# Altium schematic symbol library SparkFun-Connectors.SCHLIB: 441 symbols (part 4 of 12)
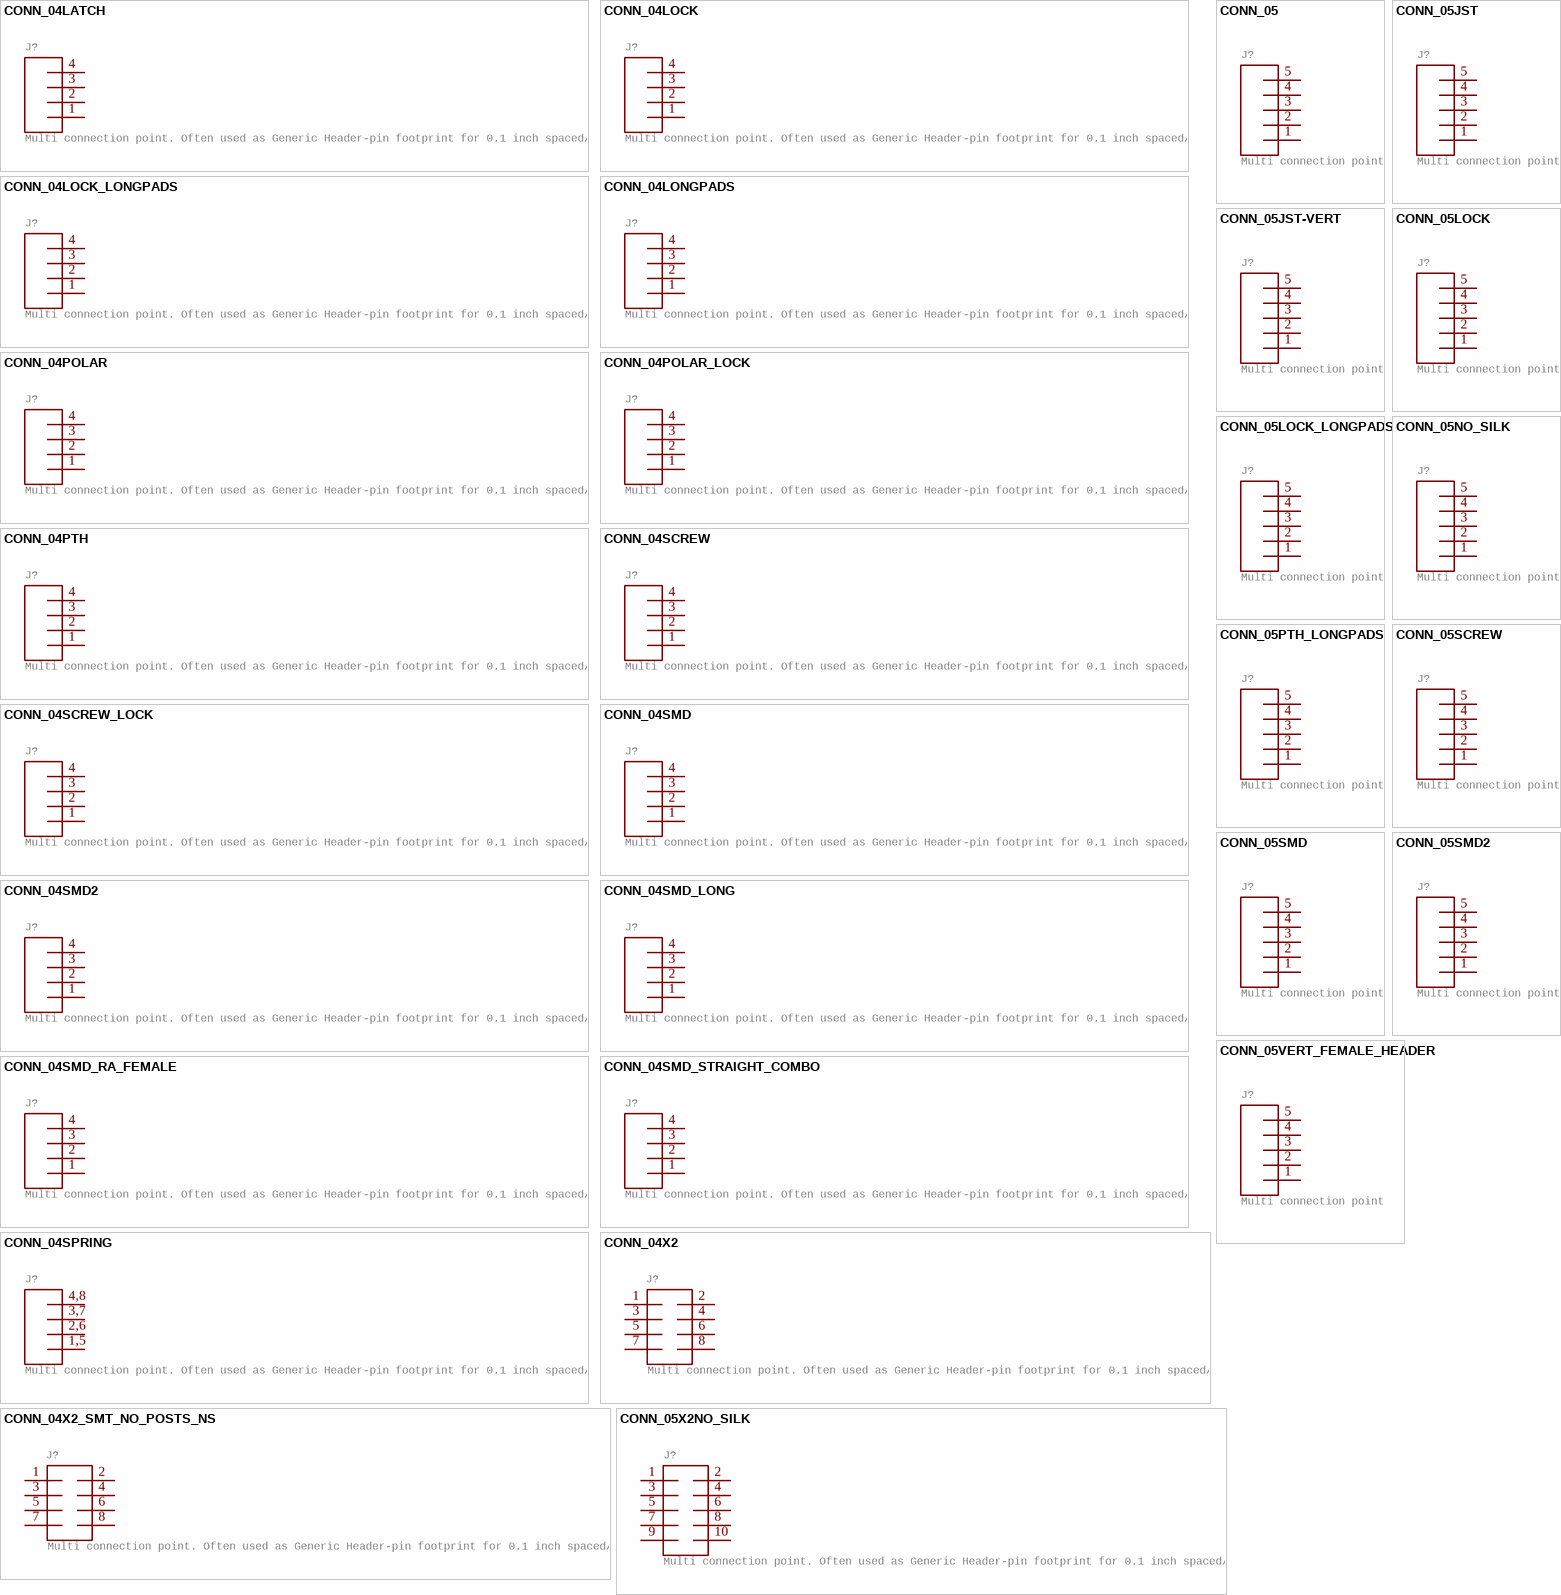
[diagram p23: symbols CONN_04LATCH to CONN_05X2NO_SILK]

## CONN_05LOCK
designator J?, comment Multi connection point. Often used as Generic Header-pin footprint for 0.1 inch spaced/style header connections    On any of the 0.1 inch spaced packages, you can populate with these:  Break Away Headers - Straight (PRT-00116)   Break Away Male Headers - Right Angle (PRT-00553)   Female Headers (PRT-00115)   Break Away Headers - Machine Pin (PRT-00117)   Break Away Female Headers - Swiss Machine Pin (PRT-00743)        For SCREWTERMINALS and SPRING TERMINALS visit here:  Screw Terimnals on SparkFun.com (5mm/3.5mm/2.54mm spacing)       This device is also useful as a general connection point to wire up your design to another part of your project. Our various solder wires solder well into these plated through hole pads.  Hook-Up Wire - Assortment (Stranded, 22 AWG) (PRT-11375)   Hook-Up Wire - Assortment (Solid Core, 22 AWG) (PRT-11367)   View the entire wire category on our website here          Special notes:     Molex polarized connector foot print use with SKU : PRT-08231 with associated crimp pins and housings. 1MM SMD Version SKU: PRT-10208
GateName_1: G$1; SymbolName_1: CONN_05; DeviceName: LOCK; LibraryName: SparkFun-Connectors; DeviceSetName: CONN_05; Package: 1X05_LOCK
footprint 1X05_LOCK
pins: 1, 2, 3, 4, 5

## CONN_05LOCK_LONGPADS
designator J?, comment Multi connection point. Often used as Generic Header-pin footprint for 0.1 inch spaced/style header connections    On any of the 0.1 inch spaced packages, you can populate with these:  Break Away Headers - Straight (PRT-00116)   Break Away Male Headers - Right Angle (PRT-00553)   Female Headers (PRT-00115)   Break Away Headers - Machine Pin (PRT-00117)   Break Away Female Headers - Swiss Machine Pin (PRT-00743)        For SCREWTERMINALS and SPRING TERMINALS visit here:  Screw Terimnals on SparkFun.com (5mm/3.5mm/2.54mm spacing)       This device is also useful as a general connection point to wire up your design to another part of your project. Our various solder wires solder well into these plated through hole pads.  Hook-Up Wire - Assortment (Stranded, 22 AWG) (PRT-11375)   Hook-Up Wire - Assortment (Solid Core, 22 AWG) (PRT-11367)   View the entire wire category on our website here          Special notes:     Molex polarized connector foot print use with SKU : PRT-08231 with associated crimp pins and housings. 1MM SMD Version SKU: PRT-10208
GateName_1: G$1; SymbolName_1: CONN_05; DeviceName: LOCK_LONGPADS; LibraryName: SparkFun-Connectors; DeviceSetName: CONN_05; Package: 1X05_LOCK_LONGPADS
footprint 1X05_LOCK_LONGPADS
pins: 1, 2, 3, 4, 5

## CONN_05NO_SILK
designator J?, comment Multi connection point. Often used as Generic Header-pin footprint for 0.1 inch spaced/style header connections    On any of the 0.1 inch spaced packages, you can populate with these:  Break Away Headers - Straight (PRT-00116)   Break Away Male Headers - Right Angle (PRT-00553)   Female Headers (PRT-00115)   Break Away Headers - Machine Pin (PRT-00117)   Break Away Female Headers - Swiss Machine Pin (PRT-00743)        For SCREWTERMINALS and SPRING TERMINALS visit here:  Screw Terimnals on SparkFun.com (5mm/3.5mm/2.54mm spacing)       This device is also useful as a general connection point to wire up your design to another part of your project. Our various solder wires solder well into these plated through hole pads.  Hook-Up Wire - Assortment (Stranded, 22 AWG) (PRT-11375)   Hook-Up Wire - Assortment (Solid Core, 22 AWG) (PRT-11367)   View the entire wire category on our website here          Special notes:     Molex polarized connector foot print use with SKU : PRT-08231 with associated crimp pins and housings. 1MM SMD Version SKU: PRT-10208
GateName_1: G$1; SymbolName_1: CONN_05; DeviceName: NO_SILK; LibraryName: SparkFun-Connectors; DeviceSetName: CONN_05; Package: 1X05_NO_SILK
footprint 1X05_NO_SILK
pins: 1, 2, 3, 4, 5

## CONN_05PTH_LONGPADS
designator J?, comment Multi connection point. Often used as Generic Header-pin footprint for 0.1 inch spaced/style header connections    On any of the 0.1 inch spaced packages, you can populate with these:  Break Away Headers - Straight (PRT-00116)   Break Away Male Headers - Right Angle (PRT-00553)   Female Headers (PRT-00115)   Break Away Headers - Machine Pin (PRT-00117)   Break Away Female Headers - Swiss Machine Pin (PRT-00743)        For SCREWTERMINALS and SPRING TERMINALS visit here:  Screw Terimnals on SparkFun.com (5mm/3.5mm/2.54mm spacing)       This device is also useful as a general connection point to wire up your design to another part of your project. Our various solder wires solder well into these plated through hole pads.  Hook-Up Wire - Assortment (Stranded, 22 AWG) (PRT-11375)   Hook-Up Wire - Assortment (Solid Core, 22 AWG) (PRT-11367)   View the entire wire category on our website here          Special notes:     Molex polarized connector foot print use with SKU : PRT-08231 with associated crimp pins and housings. 1MM SMD Version SKU: PRT-10208
GateName_1: G$1; SymbolName_1: CONN_05; DeviceName: PTH_LONGPADS; LibraryName: SparkFun-Connectors; DeviceSetName: CONN_05; Package: 1X05_LONGPADS
footprint 1X05_LONGPADS
pins: 1, 2, 3, 4, 5

## CONN_05SCREW
designator J?, comment Multi connection point. Often used as Generic Header-pin footprint for 0.1 inch spaced/style header connections    On any of the 0.1 inch spaced packages, you can populate with these:  Break Away Headers - Straight (PRT-00116)   Break Away Male Headers - Right Angle (PRT-00553)   Female Headers (PRT-00115)   Break Away Headers - Machine Pin (PRT-00117)   Break Away Female Headers - Swiss Machine Pin (PRT-00743)        For SCREWTERMINALS and SPRING TERMINALS visit here:  Screw Terimnals on SparkFun.com (5mm/3.5mm/2.54mm spacing)       This device is also useful as a general connection point to wire up your design to another part of your project. Our various solder wires solder well into these plated through hole pads.  Hook-Up Wire - Assortment (Stranded, 22 AWG) (PRT-11375)   Hook-Up Wire - Assortment (Solid Core, 22 AWG) (PRT-11367)   View the entire wire category on our website here          Special notes:     Molex polarized connector foot print use with SKU : PRT-08231 with associated crimp pins and housings. 1MM SMD Version SKU: PRT-10208
GateName_1: G$1; SymbolName_1: CONN_05; PROD_ID: Combine 8288+8399; DeviceName: SCREW; LibraryName: SparkFun-Connectors; DeviceSetName: CONN_05; Package: SCREWTERMINAL-3.5MM-5
footprint SCREWTERMINAL-3.5MM-5
pins: 1, 2, 3, 4, 5

## CONN_05SMD
designator J?, comment Multi connection point. Often used as Generic Header-pin footprint for 0.1 inch spaced/style header connections    On any of the 0.1 inch spaced packages, you can populate with these:  Break Away Headers - Straight (PRT-00116)   Break Away Male Headers - Right Angle (PRT-00553)   Female Headers (PRT-00115)   Break Away Headers - Machine Pin (PRT-00117)   Break Away Female Headers - Swiss Machine Pin (PRT-00743)        For SCREWTERMINALS and SPRING TERMINALS visit here:  Screw Terimnals on SparkFun.com (5mm/3.5mm/2.54mm spacing)       This device is also useful as a general connection point to wire up your design to another part of your project. Our various solder wires solder well into these plated through hole pads.  Hook-Up Wire - Assortment (Stranded, 22 AWG) (PRT-11375)   Hook-Up Wire - Assortment (Solid Core, 22 AWG) (PRT-11367)   View the entire wire category on our website here          Special notes:     Molex polarized connector foot print use with SKU : PRT-08231 with associated crimp pins and housings. 1MM SMD Version SKU: PRT-10208
GateName_1: G$1; SymbolName_1: CONN_05; PROD_ID: CONN-08528; SF_ID: GPS-08288; DeviceName: SMD; LibraryName: SparkFun-Connectors; DeviceSetName: CONN_05; Package: 1X05_1MM
footprint 1X05_1MM
pins: 1, 2, 3, 4, 5

## CONN_05SMD2
designator J?, comment Multi connection point. Often used as Generic Header-pin footprint for 0.1 inch spaced/style header connections    On any of the 0.1 inch spaced packages, you can populate with these:  Break Away Headers - Straight (PRT-00116)   Break Away Male Headers - Right Angle (PRT-00553)   Female Headers (PRT-00115)   Break Away Headers - Machine Pin (PRT-00117)   Break Away Female Headers - Swiss Machine Pin (PRT-00743)        For SCREWTERMINALS and SPRING TERMINALS visit here:  Screw Terimnals on SparkFun.com (5mm/3.5mm/2.54mm spacing)       This device is also useful as a general connection point to wire up your design to another part of your project. Our various solder wires solder well into these plated through hole pads.  Hook-Up Wire - Assortment (Stranded, 22 AWG) (PRT-11375)   Hook-Up Wire - Assortment (Solid Core, 22 AWG) (PRT-11367)   View the entire wire category on our website here          Special notes:     Molex polarized connector foot print use with SKU : PRT-08231 with associated crimp pins and housings. 1MM SMD Version SKU: PRT-10208
GateName_1: G$1; SymbolName_1: CONN_05; DeviceName: SMD2; LibraryName: SparkFun-Connectors; DeviceSetName: CONN_05; Package: 1X05_1MM_RA
footprint 1X05_1MM_RA
pins: 1, 2, 3, 4, 5

## CONN_05VERT_FEMALE_HEADER
designator J?, comment Multi connection point. Often used as Generic Header-pin footprint for 0.1 inch spaced/style header connections    On any of the 0.1 inch spaced packages, you can populate with these:  Break Away Headers - Straight (PRT-00116)   Break Away Male Headers - Right Angle (PRT-00553)   Female Headers (PRT-00115)   Break Away Headers - Machine Pin (PRT-00117)   Break Away Female Headers - Swiss Machine Pin (PRT-00743)        For SCREWTERMINALS and SPRING TERMINALS visit here:  Screw Terimnals on SparkFun.com (5mm/3.5mm/2.54mm spacing)       This device is also useful as a general connection point to wire up your design to another part of your project. Our various solder wires solder well into these plated through hole pads.  Hook-Up Wire - Assortment (Stranded, 22 AWG) (PRT-11375)   Hook-Up Wire - Assortment (Solid Core, 22 AWG) (PRT-11367)   View the entire wire category on our website here          Special notes:     Molex polarized connector foot print use with SKU : PRT-08231 with associated crimp pins and housings. 1MM SMD Version SKU: PRT-10208
GateName_1: G$1; SymbolName_1: CONN_05; DeviceName: VERT_FEMALE_HEADER; PROD_ID: CONN-15262; LibraryName: SparkFun-Connectors; DeviceSetName: CONN_05; Package: 1X05_SMD_VERTICAL_COMBO
footprint 1X05_SMD_VERTICAL_COMBO
pins: 1, 2, 3, 4, 5

## CONN_05X2NO_SILK
designator J?, comment Multi connection point. Often used as Generic Header-pin footprint for 0.1 inch spaced/style header connections     For AVR SPI programming port, see special device with nice symbol: "AVR_SPI_PROG_5x2.dev"    You can populate with any combo of single row headers, but if you'd like an exact match, check these:  2x5 AVR ICSP Male Header (PRT-00778)   2x5 Pin Shrouded Header (PRT-08506)       On any of the 0.1 inch spaced packages, you can populate with these:  Break Away Headers - Straight (PRT-00116)   Break Away Male Headers - Right Angle (PRT-00553)   Female Headers (PRT-00115)   Break Away Headers - Machine Pin (PRT-00117)   Break Away Female Headers - Swiss Machine Pin (PRT-00743)       Special note: the shrouded connector mates well with our 5x2 ribbon cables:  2x5 Pin IDC Ribbon Cable (PRT-08535)
GateName_1: G$1; SymbolName_1: CONN_05X2; DeviceName: NO_SILK; LibraryName: SparkFun-Connectors; DeviceSetName: CONN_05X2; Package: 2X5_NOSILK
footprint 2X5_NOSILK
pins: 1, 2, 3, 4, 5, 6, 7, 8, 9, 10

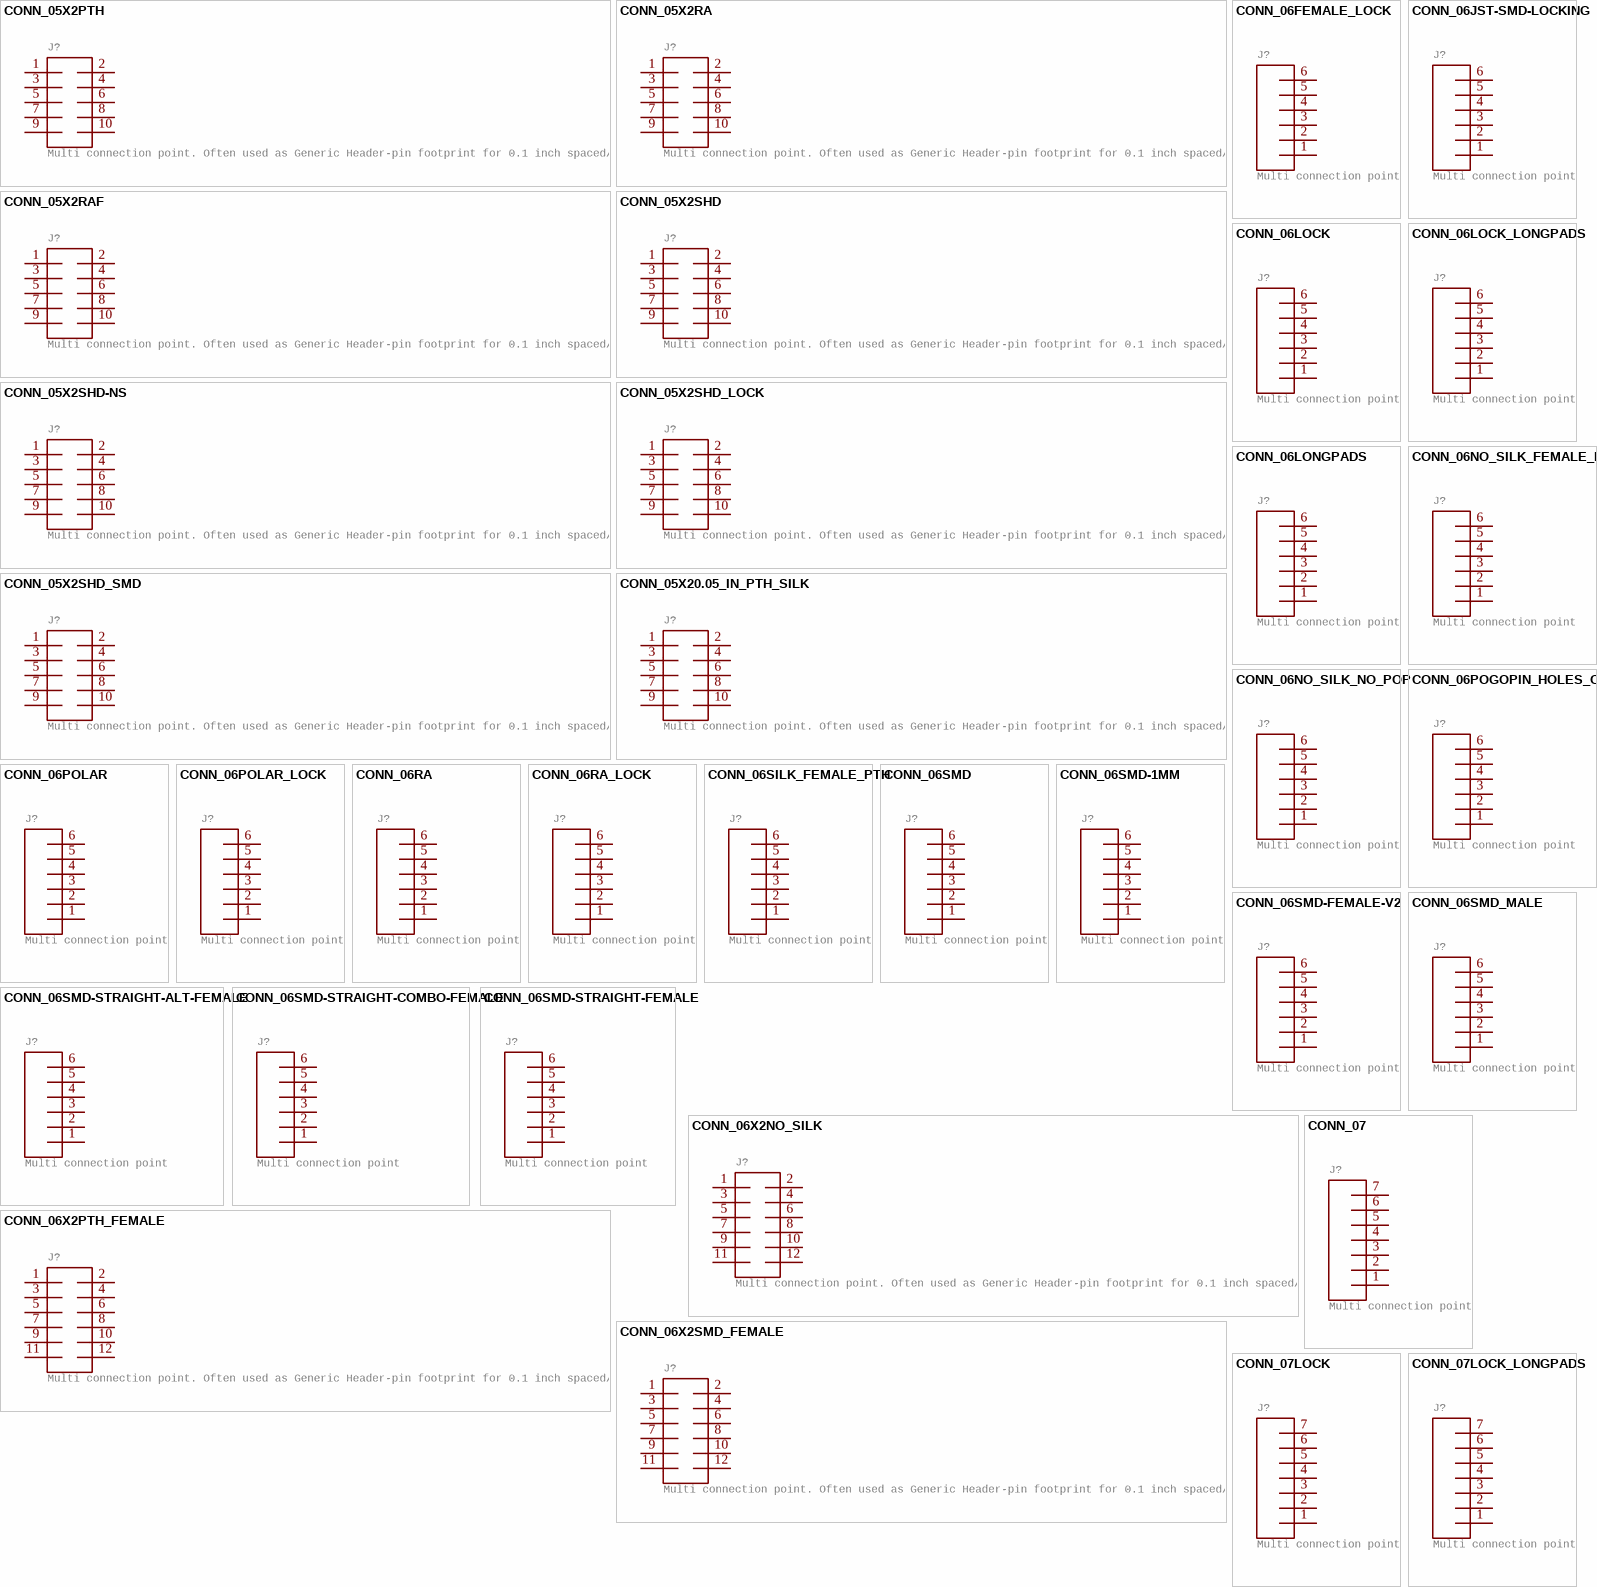
[diagram p6: symbols CONN_05X2PTH to CONN_07LOCK_LONGPADS]

## CONN_05X2PTH
designator J?, comment Multi connection point. Often used as Generic Header-pin footprint for 0.1 inch spaced/style header connections     For AVR SPI programming port, see special device with nice symbol: "AVR_SPI_PROG_5x2.dev"    You can populate with any combo of single row headers, but if you'd like an exact match, check these:  2x5 AVR ICSP Male Header (PRT-00778)   2x5 Pin Shrouded Header (PRT-08506)       On any of the 0.1 inch spaced packages, you can populate with these:  Break Away Headers - Straight (PRT-00116)   Break Away Male Headers - Right Angle (PRT-00553)   Female Headers (PRT-00115)   Break Away Headers - Machine Pin (PRT-00117)   Break Away Female Headers - Swiss Machine Pin (PRT-00743)       Special note: the shrouded connector mates well with our 5x2 ribbon cables:  2x5 Pin IDC Ribbon Cable (PRT-08535)
GateName_1: G$1; SymbolName_1: CONN_05X2; DeviceName: PTH; PROD_ID: CONN-08499; LibraryName: SparkFun-Connectors; DeviceSetName: CONN_05X2; Package: 2X5; SF_ID: PRT-0778
footprint 2X5
pins: 1, 2, 3, 4, 5, 6, 7, 8, 9, 10

## CONN_05X2RA
designator J?, comment Multi connection point. Often used as Generic Header-pin footprint for 0.1 inch spaced/style header connections     For AVR SPI programming port, see special device with nice symbol: "AVR_SPI_PROG_5x2.dev"    You can populate with any combo of single row headers, but if you'd like an exact match, check these:  2x5 AVR ICSP Male Header (PRT-00778)   2x5 Pin Shrouded Header (PRT-08506)       On any of the 0.1 inch spaced packages, you can populate with these:  Break Away Headers - Straight (PRT-00116)   Break Away Male Headers - Right Angle (PRT-00553)   Female Headers (PRT-00115)   Break Away Headers - Machine Pin (PRT-00117)   Break Away Female Headers - Swiss Machine Pin (PRT-00743)       Special note: the shrouded connector mates well with our 5x2 ribbon cables:  2x5 Pin IDC Ribbon Cable (PRT-08535)
GateName_1: G$1; SymbolName_1: CONN_05X2; DeviceName: RA; LibraryName: SparkFun-Connectors; DeviceSetName: CONN_05X2; Package: 2X5-RA
footprint 2X5-RA
pins: 1, 2, 3, 4, 5, 6, 7, 8, 9, 10

## CONN_05X2RAF
designator J?, comment Multi connection point. Often used as Generic Header-pin footprint for 0.1 inch spaced/style header connections     For AVR SPI programming port, see special device with nice symbol: "AVR_SPI_PROG_5x2.dev"    You can populate with any combo of single row headers, but if you'd like an exact match, check these:  2x5 AVR ICSP Male Header (PRT-00778)   2x5 Pin Shrouded Header (PRT-08506)       On any of the 0.1 inch spaced packages, you can populate with these:  Break Away Headers - Straight (PRT-00116)   Break Away Male Headers - Right Angle (PRT-00553)   Female Headers (PRT-00115)   Break Away Headers - Machine Pin (PRT-00117)   Break Away Female Headers - Swiss Machine Pin (PRT-00743)       Special note: the shrouded connector mates well with our 5x2 ribbon cables:  2x5 Pin IDC Ribbon Cable (PRT-08535)
GateName_1: G$1; SymbolName_1: CONN_05X2; DeviceName: RAF; LibraryName: SparkFun-Connectors; DeviceSetName: CONN_05X2; Package: 2X5-RAF
footprint 2X5-RAF
pins: 1, 2, 3, 4, 5, 6, 7, 8, 9, 10

## CONN_05X2SHD
designator J?, comment Multi connection point. Often used as Generic Header-pin footprint for 0.1 inch spaced/style header connections     For AVR SPI programming port, see special device with nice symbol: "AVR_SPI_PROG_5x2.dev"    You can populate with any combo of single row headers, but if you'd like an exact match, check these:  2x5 AVR ICSP Male Header (PRT-00778)   2x5 Pin Shrouded Header (PRT-08506)       On any of the 0.1 inch spaced packages, you can populate with these:  Break Away Headers - Straight (PRT-00116)   Break Away Male Headers - Right Angle (PRT-00553)   Female Headers (PRT-00115)   Break Away Headers - Machine Pin (PRT-00117)   Break Away Female Headers - Swiss Machine Pin (PRT-00743)       Special note: the shrouded connector mates well with our 5x2 ribbon cables:  2x5 Pin IDC Ribbon Cable (PRT-08535)
GateName_1: G$1; SymbolName_1: CONN_05X2; DeviceName: SHD; PROD_ID: CONN-08671; LibraryName: SparkFun-Connectors; DeviceSetName: CONN_05X2; Package: 2X5-SHROUDED; SF_ID: PRT-08506
footprint 2X5-SHROUDED
pins: 1, 2, 3, 4, 5, 6, 7, 8, 9, 10

## CONN_05X2SHD-NS
designator J?, comment Multi connection point. Often used as Generic Header-pin footprint for 0.1 inch spaced/style header connections     For AVR SPI programming port, see special device with nice symbol: "AVR_SPI_PROG_5x2.dev"    You can populate with any combo of single row headers, but if you'd like an exact match, check these:  2x5 AVR ICSP Male Header (PRT-00778)   2x5 Pin Shrouded Header (PRT-08506)       On any of the 0.1 inch spaced packages, you can populate with these:  Break Away Headers - Straight (PRT-00116)   Break Away Male Headers - Right Angle (PRT-00553)   Female Headers (PRT-00115)   Break Away Headers - Machine Pin (PRT-00117)   Break Away Female Headers - Swiss Machine Pin (PRT-00743)       Special note: the shrouded connector mates well with our 5x2 ribbon cables:  2x5 Pin IDC Ribbon Cable (PRT-08535)
GateName_1: G$1; SymbolName_1: CONN_05X2; DeviceName: SHD-NS; PROD_ID: CONN-08671; LibraryName: SparkFun-Connectors; DeviceSetName: CONN_05X2; Package: 2X5-SHROUDED-NS; SF_ID: PRT-08506
footprint 2X5-SHROUDED-NS
pins: 1, 2, 3, 4, 5, 6, 7, 8, 9, 10

## CONN_05X2SHD_LOCK
designator J?, comment Multi connection point. Often used as Generic Header-pin footprint for 0.1 inch spaced/style header connections     For AVR SPI programming port, see special device with nice symbol: "AVR_SPI_PROG_5x2.dev"    You can populate with any combo of single row headers, but if you'd like an exact match, check these:  2x5 AVR ICSP Male Header (PRT-00778)   2x5 Pin Shrouded Header (PRT-08506)       On any of the 0.1 inch spaced packages, you can populate with these:  Break Away Headers - Straight (PRT-00116)   Break Away Male Headers - Right Angle (PRT-00553)   Female Headers (PRT-00115)   Break Away Headers - Machine Pin (PRT-00117)   Break Away Female Headers - Swiss Machine Pin (PRT-00743)       Special note: the shrouded connector mates well with our 5x2 ribbon cables:  2x5 Pin IDC Ribbon Cable (PRT-08535)
GateName_1: G$1; SymbolName_1: CONN_05X2; DeviceName: SHD_LOCK; PROD_ID: CONN-08671; LibraryName: SparkFun-Connectors; DeviceSetName: CONN_05X2; Package: 2X5-SHROUDED_LOCK; SF_ID: PRT-08506
footprint 2X5-SHROUDED_LOCK
pins: 1, 2, 3, 4, 5, 6, 7, 8, 9, 10

## CONN_05X2SHD_SMD
designator J?, comment Multi connection point. Often used as Generic Header-pin footprint for 0.1 inch spaced/style header connections     For AVR SPI programming port, see special device with nice symbol: "AVR_SPI_PROG_5x2.dev"    You can populate with any combo of single row headers, but if you'd like an exact match, check these:  2x5 AVR ICSP Male Header (PRT-00778)   2x5 Pin Shrouded Header (PRT-08506)       On any of the 0.1 inch spaced packages, you can populate with these:  Break Away Headers - Straight (PRT-00116)   Break Away Male Headers - Right Angle (PRT-00553)   Female Headers (PRT-00115)   Break Away Headers - Machine Pin (PRT-00117)   Break Away Female Headers - Swiss Machine Pin (PRT-00743)       Special note: the shrouded connector mates well with our 5x2 ribbon cables:  2x5 Pin IDC Ribbon Cable (PRT-08535)
GateName_1: G$1; SymbolName_1: CONN_05X2; DeviceName: SHD_SMD; PROD_ID: CONN-09508; LibraryName: SparkFun-Connectors; DeviceSetName: CONN_05X2; Package: 2X5-SHROUDED_SMD
footprint 2X5-SHROUDED_SMD
pins: 1, 2, 3, 4, 5, 6, 7, 8, 9, 10

## CONN_05X20.05_IN_PTH_SILK
designator J?, comment Multi connection point. Often used as Generic Header-pin footprint for 0.1 inch spaced/style header connections     For AVR SPI programming port, see special device with nice symbol: "AVR_SPI_PROG_5x2.dev"    You can populate with any combo of single row headers, but if you'd like an exact match, check these:  2x5 AVR ICSP Male Header (PRT-00778)   2x5 Pin Shrouded Header (PRT-08506)       On any of the 0.1 inch spaced packages, you can populate with these:  Break Away Headers - Straight (PRT-00116)   Break Away Male Headers - Right Angle (PRT-00553)   Female Headers (PRT-00115)   Break Away Headers - Machine Pin (PRT-00117)   Break Away Female Headers - Swiss Machine Pin (PRT-00743)       Special note: the shrouded connector mates well with our 5x2 ribbon cables:  2x5 Pin IDC Ribbon Cable (PRT-08535)
GateName_1: G$1; SymbolName_1: CONN_05X2; DeviceName: 0.05_IN_PTH_SILK; LibraryName: SparkFun-Connectors; DeviceSetName: CONN_05X2; Package: 2X5_PTH_SILK_.05
footprint 2X5_PTH_SILK_.05
pins: 1, 2, 3, 4, 5, 6, 7, 8, 9, 10

## CONN_06FEMALE_LOCK
designator J?, comment Multi connection point. Often used as Generic Header-pin footprint for 0.1 inch spaced/style header connections    On any of the 0.1 inch spaced packages, you can populate with these:  Break Away Headers - Straight (PRT-00116)   Break Away Male Headers - Right Angle (PRT-00553)   Female Headers (PRT-00115)   Break Away Headers - Machine Pin (PRT-00117)   Break Away Female Headers - Swiss Machine Pin (PRT-00743)   Arduino Stackable Header - 6 Pin (PRT-09280)        For SCREWTERMINALS and SPRING TERMINALS visit here:  Screw Terimnals on SparkFun.com (5mm/3.5mm/2.54mm spacing)       This device is also useful as a general connection point to wire up your design to another part of your project. Our various solder wires solder well into these plated through hole pads.  Hook-Up Wire - Assortment (Stranded, 22 AWG) (PRT-11375)   Hook-Up Wire - Assortment (Solid Core, 22 AWG) (PRT-11367)   View the entire wire category on our website here
GateName_1: G$1; SymbolName_1: CONN_06; DeviceName: FEMALE_LOCK; LibraryName: SparkFun-Connectors; DeviceSetName: CONN_06; Package: 1X06_FEMALE_LOCK.010
footprint 1X06_FEMALE_LOCK.010
pins: 1, 2, 3, 4, 5, 6

## CONN_06JST-SMD-LOCKING
designator J?, comment Multi connection point. Often used as Generic Header-pin footprint for 0.1 inch spaced/style header connections    On any of the 0.1 inch spaced packages, you can populate with these:  Break Away Headers - Straight (PRT-00116)   Break Away Male Headers - Right Angle (PRT-00553)   Female Headers (PRT-00115)   Break Away Headers - Machine Pin (PRT-00117)   Break Away Female Headers - Swiss Machine Pin (PRT-00743)   Arduino Stackable Header - 6 Pin (PRT-09280)        For SCREWTERMINALS and SPRING TERMINALS visit here:  Screw Terimnals on SparkFun.com (5mm/3.5mm/2.54mm spacing)       This device is also useful as a general connection point to wire up your design to another part of your project. Our various solder wires solder well into these plated through hole pads.  Hook-Up Wire - Assortment (Stranded, 22 AWG) (PRT-11375)   Hook-Up Wire - Assortment (Solid Core, 22 AWG) (PRT-11367)   View the entire wire category on our website here
GateName_1: G$1; SymbolName_1: CONN_06; DeviceName: JST-SMD-LOCKING; PROD_ID: CONN-16497; LibraryName: SparkFun-Connectors; DeviceSetName: CONN_06; Package: JST-6-SMD-1.25MM-LOCKING
footprint JST-6-SMD-1.25MM-LOCKING
pins: 1, 2, 3, 4, 5, 6

## CONN_06LOCK
designator J?, comment Multi connection point. Often used as Generic Header-pin footprint for 0.1 inch spaced/style header connections    On any of the 0.1 inch spaced packages, you can populate with these:  Break Away Headers - Straight (PRT-00116)   Break Away Male Headers - Right Angle (PRT-00553)   Female Headers (PRT-00115)   Break Away Headers - Machine Pin (PRT-00117)   Break Away Female Headers - Swiss Machine Pin (PRT-00743)   Arduino Stackable Header - 6 Pin (PRT-09280)        For SCREWTERMINALS and SPRING TERMINALS visit here:  Screw Terimnals on SparkFun.com (5mm/3.5mm/2.54mm spacing)       This device is also useful as a general connection point to wire up your design to another part of your project. Our various solder wires solder well into these plated through hole pads.  Hook-Up Wire - Assortment (Stranded, 22 AWG) (PRT-11375)   Hook-Up Wire - Assortment (Solid Core, 22 AWG) (PRT-11367)   View the entire wire category on our website here
GateName_1: G$1; SymbolName_1: CONN_06; DeviceName: LOCK; LibraryName: SparkFun-Connectors; DeviceSetName: CONN_06; Package: 1X06_LOCK
footprint 1X06_LOCK
pins: 1, 2, 3, 4, 5, 6

## CONN_06LOCK_LONGPADS
designator J?, comment Multi connection point. Often used as Generic Header-pin footprint for 0.1 inch spaced/style header connections    On any of the 0.1 inch spaced packages, you can populate with these:  Break Away Headers - Straight (PRT-00116)   Break Away Male Headers - Right Angle (PRT-00553)   Female Headers (PRT-00115)   Break Away Headers - Machine Pin (PRT-00117)   Break Away Female Headers - Swiss Machine Pin (PRT-00743)   Arduino Stackable Header - 6 Pin (PRT-09280)        For SCREWTERMINALS and SPRING TERMINALS visit here:  Screw Terimnals on SparkFun.com (5mm/3.5mm/2.54mm spacing)       This device is also useful as a general connection point to wire up your design to another part of your project. Our various solder wires solder well into these plated through hole pads.  Hook-Up Wire - Assortment (Stranded, 22 AWG) (PRT-11375)   Hook-Up Wire - Assortment (Solid Core, 22 AWG) (PRT-11367)   View the entire wire category on our website here
GateName_1: G$1; SymbolName_1: CONN_06; DeviceName: LOCK_LONGPADS; LibraryName: SparkFun-Connectors; DeviceSetName: CONN_06; Package: 1X06_LOCK_LONGPADS
footprint 1X06_LOCK_LONGPADS
pins: 1, 2, 3, 4, 5, 6

## CONN_06LONGPADS
designator J?, comment Multi connection point. Often used as Generic Header-pin footprint for 0.1 inch spaced/style header connections    On any of the 0.1 inch spaced packages, you can populate with these:  Break Away Headers - Straight (PRT-00116)   Break Away Male Headers - Right Angle (PRT-00553)   Female Headers (PRT-00115)   Break Away Headers - Machine Pin (PRT-00117)   Break Away Female Headers - Swiss Machine Pin (PRT-00743)   Arduino Stackable Header - 6 Pin (PRT-09280)        For SCREWTERMINALS and SPRING TERMINALS visit here:  Screw Terimnals on SparkFun.com (5mm/3.5mm/2.54mm spacing)       This device is also useful as a general connection point to wire up your design to another part of your project. Our various solder wires solder well into these plated through hole pads.  Hook-Up Wire - Assortment (Stranded, 22 AWG) (PRT-11375)   Hook-Up Wire - Assortment (Solid Core, 22 AWG) (PRT-11367)   View the entire wire category on our website here
GateName_1: G$1; SymbolName_1: CONN_06; DeviceName: LONGPADS; LibraryName: SparkFun-Connectors; DeviceSetName: CONN_06; Package: 1X06_LONGPADS
footprint 1X06_LONGPADS
pins: 1, 2, 3, 4, 5, 6

## CONN_06NO_SILK_FEMALE_PTH
designator J?, comment Multi connection point. Often used as Generic Header-pin footprint for 0.1 inch spaced/style header connections    On any of the 0.1 inch spaced packages, you can populate with these:  Break Away Headers - Straight (PRT-00116)   Break Away Male Headers - Right Angle (PRT-00553)   Female Headers (PRT-00115)   Break Away Headers - Machine Pin (PRT-00117)   Break Away Female Headers - Swiss Machine Pin (PRT-00743)   Arduino Stackable Header - 6 Pin (PRT-09280)        For SCREWTERMINALS and SPRING TERMINALS visit here:  Screw Terimnals on SparkFun.com (5mm/3.5mm/2.54mm spacing)       This device is also useful as a general connection point to wire up your design to another part of your project. Our various solder wires solder well into these plated through hole pads.  Hook-Up Wire - Assortment (Stranded, 22 AWG) (PRT-11375)   Hook-Up Wire - Assortment (Solid Core, 22 AWG) (PRT-11367)   View the entire wire category on our website here
GateName_1: G$1; SymbolName_1: CONN_06; DeviceName: NO_SILK_FEMALE_PTH; PROD_ID: CONN-08437; LibraryName: SparkFun-Connectors; DeviceSetName: CONN_06; Package: 1X06_NO_SILK
footprint 1X06_NO_SILK
pins: 1, 2, 3, 4, 5, 6

## CONN_06NO_SILK_NO_POP
designator J?, comment Multi connection point. Often used as Generic Header-pin footprint for 0.1 inch spaced/style header connections    On any of the 0.1 inch spaced packages, you can populate with these:  Break Away Headers - Straight (PRT-00116)   Break Away Male Headers - Right Angle (PRT-00553)   Female Headers (PRT-00115)   Break Away Headers - Machine Pin (PRT-00117)   Break Away Female Headers - Swiss Machine Pin (PRT-00743)   Arduino Stackable Header - 6 Pin (PRT-09280)        For SCREWTERMINALS and SPRING TERMINALS visit here:  Screw Terimnals on SparkFun.com (5mm/3.5mm/2.54mm spacing)       This device is also useful as a general connection point to wire up your design to another part of your project. Our various solder wires solder well into these plated through hole pads.  Hook-Up Wire - Assortment (Stranded, 22 AWG) (PRT-11375)   Hook-Up Wire - Assortment (Solid Core, 22 AWG) (PRT-11367)   View the entire wire category on our website here
GateName_1: G$1; SymbolName_1: CONN_06; DeviceName: NO_SILK_NO_POP; LibraryName: SparkFun-Connectors; DeviceSetName: CONN_06; Package: 1X06_NO_SILK
footprint 1X06_NO_SILK
pins: 1, 2, 3, 4, 5, 6

## CONN_06POGOPIN_HOLES_ONLY
designator J?, comment Multi connection point. Often used as Generic Header-pin footprint for 0.1 inch spaced/style header connections    On any of the 0.1 inch spaced packages, you can populate with these:  Break Away Headers - Straight (PRT-00116)   Break Away Male Headers - Right Angle (PRT-00553)   Female Headers (PRT-00115)   Break Away Headers - Machine Pin (PRT-00117)   Break Away Female Headers - Swiss Machine Pin (PRT-00743)   Arduino Stackable Header - 6 Pin (PRT-09280)        For SCREWTERMINALS and SPRING TERMINALS visit here:  Screw Terimnals on SparkFun.com (5mm/3.5mm/2.54mm spacing)       This device is also useful as a general connection point to wire up your design to another part of your project. Our various solder wires solder well into these plated through hole pads.  Hook-Up Wire - Assortment (Stranded, 22 AWG) (PRT-11375)   Hook-Up Wire - Assortment (Solid Core, 22 AWG) (PRT-11367)   View the entire wire category on our website here
GateName_1: G$1; SymbolName_1: CONN_06; DeviceName: POGOPIN_HOLES_ONLY; PROD_ID: CONN-08437; LibraryName: SparkFun-Connectors; DeviceSetName: CONN_06; Package: 1X06_HOLES_ONLY
footprint 1X06_HOLES_ONLY
pins: 1, 2, 3, 4, 5, 6

## CONN_06POLAR
designator J?, comment Multi connection point. Often used as Generic Header-pin footprint for 0.1 inch spaced/style header connections    On any of the 0.1 inch spaced packages, you can populate with these:  Break Away Headers - Straight (PRT-00116)   Break Away Male Headers - Right Angle (PRT-00553)   Female Headers (PRT-00115)   Break Away Headers - Machine Pin (PRT-00117)   Break Away Female Headers - Swiss Machine Pin (PRT-00743)   Arduino Stackable Header - 6 Pin (PRT-09280)        For SCREWTERMINALS and SPRING TERMINALS visit here:  Screw Terimnals on SparkFun.com (5mm/3.5mm/2.54mm spacing)       This device is also useful as a general connection point to wire up your design to another part of your project. Our various solder wires solder well into these plated through hole pads.  Hook-Up Wire - Assortment (Stranded, 22 AWG) (PRT-11375)   Hook-Up Wire - Assortment (Solid Core, 22 AWG) (PRT-11367)   View the entire wire category on our website here
GateName_1: G$1; SymbolName_1: CONN_06; DeviceName: POLAR; LibraryName: SparkFun-Connectors; DeviceSetName: CONN_06; Package: MOLEX-1X6
footprint MOLEX-1X6
pins: 1, 2, 3, 4, 5, 6

## CONN_06POLAR_LOCK
designator J?, comment Multi connection point. Often used as Generic Header-pin footprint for 0.1 inch spaced/style header connections    On any of the 0.1 inch spaced packages, you can populate with these:  Break Away Headers - Straight (PRT-00116)   Break Away Male Headers - Right Angle (PRT-00553)   Female Headers (PRT-00115)   Break Away Headers - Machine Pin (PRT-00117)   Break Away Female Headers - Swiss Machine Pin (PRT-00743)   Arduino Stackable Header - 6 Pin (PRT-09280)        For SCREWTERMINALS and SPRING TERMINALS visit here:  Screw Terimnals on SparkFun.com (5mm/3.5mm/2.54mm spacing)       This device is also useful as a general connection point to wire up your design to another part of your project. Our various solder wires solder well into these plated through hole pads.  Hook-Up Wire - Assortment (Stranded, 22 AWG) (PRT-11375)   Hook-Up Wire - Assortment (Solid Core, 22 AWG) (PRT-11367)   View the entire wire category on our website here
GateName_1: G$1; SymbolName_1: CONN_06; DeviceName: POLAR_LOCK; LibraryName: SparkFun-Connectors; DeviceSetName: CONN_06; Package: MOLEX-1X6_LOCK
footprint MOLEX-1X6_LOCK
pins: 1, 2, 3, 4, 5, 6

## CONN_06RA
designator J?, comment Multi connection point. Often used as Generic Header-pin footprint for 0.1 inch spaced/style header connections    On any of the 0.1 inch spaced packages, you can populate with these:  Break Away Headers - Straight (PRT-00116)   Break Away Male Headers - Right Angle (PRT-00553)   Female Headers (PRT-00115)   Break Away Headers - Machine Pin (PRT-00117)   Break Away Female Headers - Swiss Machine Pin (PRT-00743)   Arduino Stackable Header - 6 Pin (PRT-09280)        For SCREWTERMINALS and SPRING TERMINALS visit here:  Screw Terimnals on SparkFun.com (5mm/3.5mm/2.54mm spacing)       This device is also useful as a general connection point to wire up your design to another part of your project. Our various solder wires solder well into these plated through hole pads.  Hook-Up Wire - Assortment (Stranded, 22 AWG) (PRT-11375)   Hook-Up Wire - Assortment (Solid Core, 22 AWG) (PRT-11367)   View the entire wire category on our website here
GateName_1: G$1; SymbolName_1: CONN_06; DeviceName: RA; LibraryName: SparkFun-Connectors; DeviceSetName: CONN_06; Package: MOLEX-1X6-RA
footprint MOLEX-1X6-RA
pins: 1, 2, 3, 4, 5, 6

## CONN_06RA_LOCK
designator J?, comment Multi connection point. Often used as Generic Header-pin footprint for 0.1 inch spaced/style header connections    On any of the 0.1 inch spaced packages, you can populate with these:  Break Away Headers - Straight (PRT-00116)   Break Away Male Headers - Right Angle (PRT-00553)   Female Headers (PRT-00115)   Break Away Headers - Machine Pin (PRT-00117)   Break Away Female Headers - Swiss Machine Pin (PRT-00743)   Arduino Stackable Header - 6 Pin (PRT-09280)        For SCREWTERMINALS and SPRING TERMINALS visit here:  Screw Terimnals on SparkFun.com (5mm/3.5mm/2.54mm spacing)       This device is also useful as a general connection point to wire up your design to another part of your project. Our various solder wires solder well into these plated through hole pads.  Hook-Up Wire - Assortment (Stranded, 22 AWG) (PRT-11375)   Hook-Up Wire - Assortment (Solid Core, 22 AWG) (PRT-11367)   View the entire wire category on our website here
GateName_1: G$1; SymbolName_1: CONN_06; DeviceName: RA_LOCK; LibraryName: SparkFun-Connectors; DeviceSetName: CONN_06; Package: MOLEX_1X6_RA_LOCK
footprint MOLEX_1X6_RA_LOCK
pins: 1, 2, 3, 4, 5, 6

## CONN_06SILK_FEMALE_PTH
designator J?, comment Multi connection point. Often used as Generic Header-pin footprint for 0.1 inch spaced/style header connections    On any of the 0.1 inch spaced packages, you can populate with these:  Break Away Headers - Straight (PRT-00116)   Break Away Male Headers - Right Angle (PRT-00553)   Female Headers (PRT-00115)   Break Away Headers - Machine Pin (PRT-00117)   Break Away Female Headers - Swiss Machine Pin (PRT-00743)   Arduino Stackable Header - 6 Pin (PRT-09280)        For SCREWTERMINALS and SPRING TERMINALS visit here:  Screw Terimnals on SparkFun.com (5mm/3.5mm/2.54mm spacing)       This device is also useful as a general connection point to wire up your design to another part of your project. Our various solder wires solder well into these plated through hole pads.  Hook-Up Wire - Assortment (Stranded, 22 AWG) (PRT-11375)   Hook-Up Wire - Assortment (Solid Core, 22 AWG) (PRT-11367)   View the entire wire category on our website here
GateName_1: G$1; SymbolName_1: CONN_06; DeviceName: SILK_FEMALE_PTH; PROD_ID: CONN-08437; LibraryName: SparkFun-Connectors; DeviceSetName: CONN_06; Package: 1X06
footprint 1X06
pins: 1, 2, 3, 4, 5, 6

## CONN_06SMD
designator J?, comment Multi connection point. Often used as Generic Header-pin footprint for 0.1 inch spaced/style header connections    On any of the 0.1 inch spaced packages, you can populate with these:  Break Away Headers - Straight (PRT-00116)   Break Away Male Headers - Right Angle (PRT-00553)   Female Headers (PRT-00115)   Break Away Headers - Machine Pin (PRT-00117)   Break Away Female Headers - Swiss Machine Pin (PRT-00743)   Arduino Stackable Header - 6 Pin (PRT-09280)        For SCREWTERMINALS and SPRING TERMINALS visit here:  Screw Terimnals on SparkFun.com (5mm/3.5mm/2.54mm spacing)       This device is also useful as a general connection point to wire up your design to another part of your project. Our various solder wires solder well into these plated through hole pads.  Hook-Up Wire - Assortment (Stranded, 22 AWG) (PRT-11375)   Hook-Up Wire - Assortment (Solid Core, 22 AWG) (PRT-11367)   View the entire wire category on our website here
GateName_1: G$1; SymbolName_1: CONN_06; DeviceName: SMD; PROD_ID: CONN-08971; LibraryName: SparkFun-Connectors; DeviceSetName: CONN_06; Package: 1X06-SMD_RA_MALE
footprint 1X06-SMD_RA_MALE
pins: 1, 2, 3, 4, 5, 6

## CONN_06SMD-1MM
designator J?, comment Multi connection point. Often used as Generic Header-pin footprint for 0.1 inch spaced/style header connections    On any of the 0.1 inch spaced packages, you can populate with these:  Break Away Headers - Straight (PRT-00116)   Break Away Male Headers - Right Angle (PRT-00553)   Female Headers (PRT-00115)   Break Away Headers - Machine Pin (PRT-00117)   Break Away Female Headers - Swiss Machine Pin (PRT-00743)   Arduino Stackable Header - 6 Pin (PRT-09280)        For SCREWTERMINALS and SPRING TERMINALS visit here:  Screw Terimnals on SparkFun.com (5mm/3.5mm/2.54mm spacing)       This device is also useful as a general connection point to wire up your design to another part of your project. Our various solder wires solder well into these plated through hole pads.  Hook-Up Wire - Assortment (Stranded, 22 AWG) (PRT-11375)   Hook-Up Wire - Assortment (Solid Core, 22 AWG) (PRT-11367)   View the entire wire category on our website here
GateName_1: G$1; SymbolName_1: CONN_06; DeviceName: SMD-1MM; PROD_ID: CONN-08249; SF_ID: GPS-00579; LibraryName: SparkFun-Connectors; DeviceSetName: CONN_06; Package: 1X06-1MM
footprint 1X06-1MM
pins: 1, 2, 3, 4, 5, 6

## CONN_06SMD-FEMALE-V2
designator J?, comment Multi connection point. Often used as Generic Header-pin footprint for 0.1 inch spaced/style header connections    On any of the 0.1 inch spaced packages, you can populate with these:  Break Away Headers - Straight (PRT-00116)   Break Away Male Headers - Right Angle (PRT-00553)   Female Headers (PRT-00115)   Break Away Headers - Machine Pin (PRT-00117)   Break Away Female Headers - Swiss Machine Pin (PRT-00743)   Arduino Stackable Header - 6 Pin (PRT-09280)        For SCREWTERMINALS and SPRING TERMINALS visit here:  Screw Terimnals on SparkFun.com (5mm/3.5mm/2.54mm spacing)       This device is also useful as a general connection point to wire up your design to another part of your project. Our various solder wires solder well into these plated through hole pads.  Hook-Up Wire - Assortment (Stranded, 22 AWG) (PRT-11375)   Hook-Up Wire - Assortment (Solid Core, 22 AWG) (PRT-11367)   View the entire wire category on our website here
GateName_1: G$1; SymbolName_1: CONN_06; DeviceName: SMD-FEMALE-V2; PROD_ID: CONN-09668; LibraryName: SparkFun-Connectors; DeviceSetName: CONN_06; Package: 1X06-SMD-FEMALE
footprint 1X06-SMD-FEMALE
pins: 1, 2, 3, 4, 5, 6

## CONN_06SMD-STRAIGHT-ALT-FEMALE
designator J?, comment Multi connection point. Often used as Generic Header-pin footprint for 0.1 inch spaced/style header connections    On any of the 0.1 inch spaced packages, you can populate with these:  Break Away Headers - Straight (PRT-00116)   Break Away Male Headers - Right Angle (PRT-00553)   Female Headers (PRT-00115)   Break Away Headers - Machine Pin (PRT-00117)   Break Away Female Headers - Swiss Machine Pin (PRT-00743)   Arduino Stackable Header - 6 Pin (PRT-09280)        For SCREWTERMINALS and SPRING TERMINALS visit here:  Screw Terimnals on SparkFun.com (5mm/3.5mm/2.54mm spacing)       This device is also useful as a general connection point to wire up your design to another part of your project. Our various solder wires solder well into these plated through hole pads.  Hook-Up Wire - Assortment (Stranded, 22 AWG) (PRT-11375)   Hook-Up Wire - Assortment (Solid Core, 22 AWG) (PRT-11367)   View the entire wire category on our website here
GateName_1: G$1; SymbolName_1: CONN_06; DeviceName: SMD-STRAIGHT-ALT-FEMALE; PROD_ID: CONN-10203; LibraryName: SparkFun-Connectors; DeviceSetName: CONN_06; Package: 1X06_SMD_STRAIGHT_ALT
footprint 1X06_SMD_STRAIGHT_ALT
pins: 1, 2, 3, 4, 5, 6

## CONN_06SMD-STRAIGHT-COMBO-FEMALE
designator J?, comment Multi connection point. Often used as Generic Header-pin footprint for 0.1 inch spaced/style header connections    On any of the 0.1 inch spaced packages, you can populate with these:  Break Away Headers - Straight (PRT-00116)   Break Away Male Headers - Right Angle (PRT-00553)   Female Headers (PRT-00115)   Break Away Headers - Machine Pin (PRT-00117)   Break Away Female Headers - Swiss Machine Pin (PRT-00743)   Arduino Stackable Header - 6 Pin (PRT-09280)        For SCREWTERMINALS and SPRING TERMINALS visit here:  Screw Terimnals on SparkFun.com (5mm/3.5mm/2.54mm spacing)       This device is also useful as a general connection point to wire up your design to another part of your project. Our various solder wires solder well into these plated through hole pads.  Hook-Up Wire - Assortment (Stranded, 22 AWG) (PRT-11375)   Hook-Up Wire - Assortment (Solid Core, 22 AWG) (PRT-11367)   View the entire wire category on our website here
GateName_1: G$1; SymbolName_1: CONN_06; DeviceName: SMD-STRAIGHT-COMBO-FEMALE; PROD_ID: CONN-10203; LibraryName: SparkFun-Connectors; DeviceSetName: CONN_06; Package: 1X06_SMD_STRAIGHT_COMBO
footprint 1X06_SMD_STRAIGHT_COMBO
pins: 1, 2, 3, 4, 5, 6

## CONN_06SMD-STRAIGHT-FEMALE
designator J?, comment Multi connection point. Often used as Generic Header-pin footprint for 0.1 inch spaced/style header connections    On any of the 0.1 inch spaced packages, you can populate with these:  Break Away Headers - Straight (PRT-00116)   Break Away Male Headers - Right Angle (PRT-00553)   Female Headers (PRT-00115)   Break Away Headers - Machine Pin (PRT-00117)   Break Away Female Headers - Swiss Machine Pin (PRT-00743)   Arduino Stackable Header - 6 Pin (PRT-09280)        For SCREWTERMINALS and SPRING TERMINALS visit here:  Screw Terimnals on SparkFun.com (5mm/3.5mm/2.54mm spacing)       This device is also useful as a general connection point to wire up your design to another part of your project. Our various solder wires solder well into these plated through hole pads.  Hook-Up Wire - Assortment (Stranded, 22 AWG) (PRT-11375)   Hook-Up Wire - Assortment (Solid Core, 22 AWG) (PRT-11367)   View the entire wire category on our website here
GateName_1: G$1; SymbolName_1: CONN_06; DeviceName: SMD-STRAIGHT-FEMALE; PROD_ID: CONN-10203; LibraryName: SparkFun-Connectors; DeviceSetName: CONN_06; Package: 1X06_SMD_STRAIGHT
footprint 1X06_SMD_STRAIGHT
pins: 1, 2, 3, 4, 5, 6

## CONN_06SMD_MALE
designator J?, comment Multi connection point. Often used as Generic Header-pin footprint for 0.1 inch spaced/style header connections    On any of the 0.1 inch spaced packages, you can populate with these:  Break Away Headers - Straight (PRT-00116)   Break Away Male Headers - Right Angle (PRT-00553)   Female Headers (PRT-00115)   Break Away Headers - Machine Pin (PRT-00117)   Break Away Female Headers - Swiss Machine Pin (PRT-00743)   Arduino Stackable Header - 6 Pin (PRT-09280)        For SCREWTERMINALS and SPRING TERMINALS visit here:  Screw Terimnals on SparkFun.com (5mm/3.5mm/2.54mm spacing)       This device is also useful as a general connection point to wire up your design to another part of your project. Our various solder wires solder well into these plated through hole pads.  Hook-Up Wire - Assortment (Stranded, 22 AWG) (PRT-11375)   Hook-Up Wire - Assortment (Solid Core, 22 AWG) (PRT-11367)   View the entire wire category on our website here
GateName_1: G$1; SymbolName_1: CONN_06; DeviceName: SMD_MALE; PROD_ID: CONN-11293; LibraryName: SparkFun-Connectors; DeviceSetName: CONN_06; Package: 1X06_SMD_MALE
footprint 1X06_SMD_MALE
pins: 1, 2, 3, 4, 5, 6

## CONN_06X2NO_SILK
designator J?, comment Multi connection point. Often used as Generic Header-pin footprint for 0.1 inch spaced/style header connections    On any of the 0.1 inch spaced packages, you can populate with these:  Break Away Headers - Straight (PRT-00116)   Break Away Male Headers - Right Angle (PRT-00553)   Female Headers (PRT-00115)   Break Away Headers - Machine Pin (PRT-00117)   Break Away Female Headers - Swiss Machine Pin (PRT-00743)
GateName_1: G$1; SymbolName_1: CONN_06X2; DeviceName: NO_SILK; LibraryName: SparkFun-Connectors; DeviceSetName: CONN_06X2; Package: 2X6_NOSILK
footprint 2X6_NOSILK
pins: 1, 2, 3, 4, 5, 6, 7, 8, 9, 10, 11, 12

## CONN_06X2PTH_FEMALE
designator J?, comment Multi connection point. Often used as Generic Header-pin footprint for 0.1 inch spaced/style header connections    On any of the 0.1 inch spaced packages, you can populate with these:  Break Away Headers - Straight (PRT-00116)   Break Away Male Headers - Right Angle (PRT-00553)   Female Headers (PRT-00115)   Break Away Headers - Machine Pin (PRT-00117)   Break Away Female Headers - Swiss Machine Pin (PRT-00743)
GateName_1: G$1; SymbolName_1: CONN_06X2; DeviceName: PTH_FEMALE; PROD_ID: CONN-12423; LibraryName: SparkFun-Connectors; DeviceSetName: CONN_06X2; Package: 2X6
footprint 2X6
pins: 1, 2, 3, 4, 5, 6, 7, 8, 9, 10, 11, 12

## CONN_06X2SMD_FEMALE
designator J?, comment Multi connection point. Often used as Generic Header-pin footprint for 0.1 inch spaced/style header connections    On any of the 0.1 inch spaced packages, you can populate with these:  Break Away Headers - Straight (PRT-00116)   Break Away Male Headers - Right Angle (PRT-00553)   Female Headers (PRT-00115)   Break Away Headers - Machine Pin (PRT-00117)   Break Away Female Headers - Swiss Machine Pin (PRT-00743)
GateName_1: G$1; SymbolName_1: CONN_06X2; DeviceName: SMD_FEMALE; LibraryName: SparkFun-Connectors; DeviceSetName: CONN_06X2; Package: 2X6_SMD
footprint 2X6_SMD
pins: 1, 2, 3, 4, 5, 6, 7, 8, 9, 10, 11, 12

## CONN_07
designator J?, comment Multi connection point. Often used as Generic Header-pin footprint for 0.1 inch spaced/style header connections    On any of the 0.1 inch spaced packages, you can populate with these:  Break Away Headers - Straight (PRT-00116)   Break Away Male Headers - Right Angle (PRT-00553)   Female Headers (PRT-00115)   Break Away Headers - Machine Pin (PRT-00117)   Break Away Female Headers - Swiss Machine Pin (PRT-00743)        For SCREWTERMINALS and SPRING TERMINALS visit here:  Screw Terimnals on SparkFun.com (5mm/3.5mm/2.54mm spacing)       This device is also useful as a general connection point to wire up your design to another part of your project. Our various solder wires solder well into these plated through hole pads.  Hook-Up Wire - Assortment (Stranded, 22 AWG) (PRT-11375)   Hook-Up Wire - Assortment (Solid Core, 22 AWG) (PRT-11367)   View the entire wire category on our website here          Special notes:     Molex polarized connector foot print use with SKU : PRT-08231 with associated crimp pins and housings. 1MM SMD Version SKU: PRT-10208    NOTES ON THE VARIANTS LOCK and LOCK_LONGPADS... This footprint was designed to help hold the alignment of a through-hole component (i.e.  6-pin header) while soldering it into place. You may notice that each hole has been shifted either up or down by 0.005 of an inch from it's more standard position (which is a perfectly straight line).  This slight alteration caused the pins (the squares in the middle) to touch the edges of the holes.  Because they are alternating, it causes a "brace" to hold the component in place.  0.005 has proven to be the perfect amount of "off-center" position when using our standard breakaway headers. Although looks a little odd when you look at the bare footprint, once you have a header in there, the alteration is very hard to notice.  Also,if you push a header all the way into place, it is covered up entirely on the bottom side.
GateName_1: J1; SymbolName_1: CONN_07; LibraryName: SparkFun-Connectors; DeviceSetName: CONN_07; Package: 1X07
footprint 1X07
pins: 1, 2, 3, 4, 5, 6, 7